# EAGLE library part AT25XE041B-MHNHR-T (library My_Library)
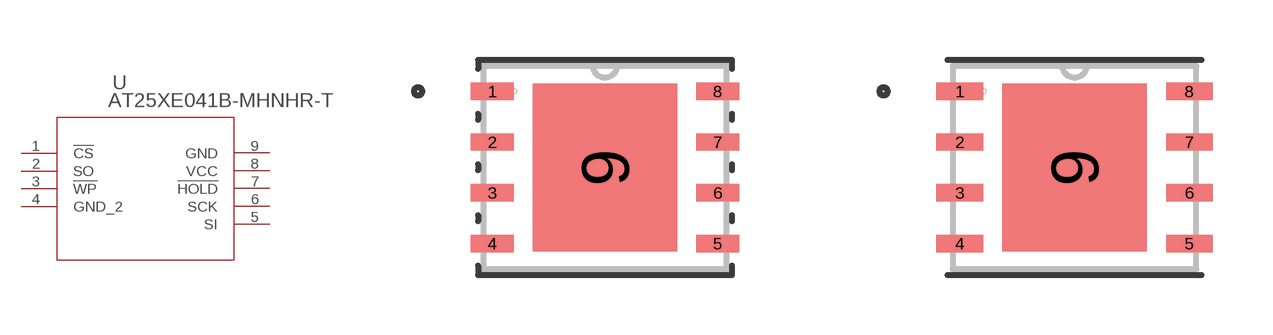
[diagram p15: symbol with the pads of UDFN8_8MA1_ADO; footprints UDFN8_8MA1_ADO, UDFN8_8MA1_ADO-M]

Designator prefix U

## AT25XE041B-MHNHR-T (COPYRIGHT: Copyright (C) 2024 Ultra Librarian. All rights reserved.; MANUFACTURER_PART_NUMBER: AT25XE041B-MHNHR-T; MFR_NAME: Adesto Technologies)  [UDFN8_8MA1_ADO]
1  !CS  in
2  SO
3  !WP  in
4  GND_2  pas
5  SI
6  SCK  in
7  !HOLD  in
8  VCC  pwr
9  GND  pas

## AT25XE041B-MHNHR-TUDFN8_8MA1_ADO-M (COPYRIGHT: Copyright (C) 2024 Ultra Librarian. All rights reserved.; MANUFACTURER_PART_NUMBER: AT25XE041B-MHNHR-T; MFR_NAME: Adesto Technologies)  [UDFN8_8MA1_ADO-M]
Pads as for UDFN8_8MA1_ADO

## AT25XE041B-MHNHR-TUDFN8_8MA1_ADO-L (COPYRIGHT: Copyright (C) 2024 Ultra Librarian. All rights reserved.; MANUFACTURER_PART_NUMBER: AT25XE041B-MHNHR-T; MFR_NAME: Adesto Technologies)  [UDFN8_8MA1_ADO-L]
Pads as for UDFN8_8MA1_ADO

## Footprint UDFN8_8MA1_ADO (pad centres in mm)
smd 1.067 x 0.432: 1 -2.819,1.905; 2 -2.819,0.635; 3 -2.819,-0.635; 4 -2.819,-1.905; 5 2.819,-1.905; 6 2.819,-0.635; 7 2.819,0.635; 8 2.819,1.905
smd 3.607 x 4.191: 9 0,0

## Footprint UDFN8_8MA1_ADO-M (pad centres in mm)
smd 1.168 x 0.432: 1 -2.87,1.905; 2 -2.87,0.635; 3 -2.87,-0.635; 4 -2.87,-1.905; 5 2.87,-1.905; 6 2.87,-0.635; 7 2.87,0.635; 8 2.87,1.905
smd 3.607 x 4.191: 9 0,0

## Footprint UDFN8_8MA1_ADO-L (pad centres in mm)
smd 0.965 x 0.432: 1 -2.769,1.905; 2 -2.769,0.635; 3 -2.769,-0.635; 4 -2.769,-1.905; 5 2.769,-1.905; 6 2.769,-0.635; 7 2.769,0.635; 8 2.769,1.905
smd 3.607 x 4.191: 9 0,0